# EAGLE library part ATMEGA328PB-AU (library U-AVR)
ATmega328PB 4 Kbytes FLASH 128 bytes SRAM 256 bytes EEPROM 2 UART, 2 I2C, 2 SPI 8-channel 10 bit ADC
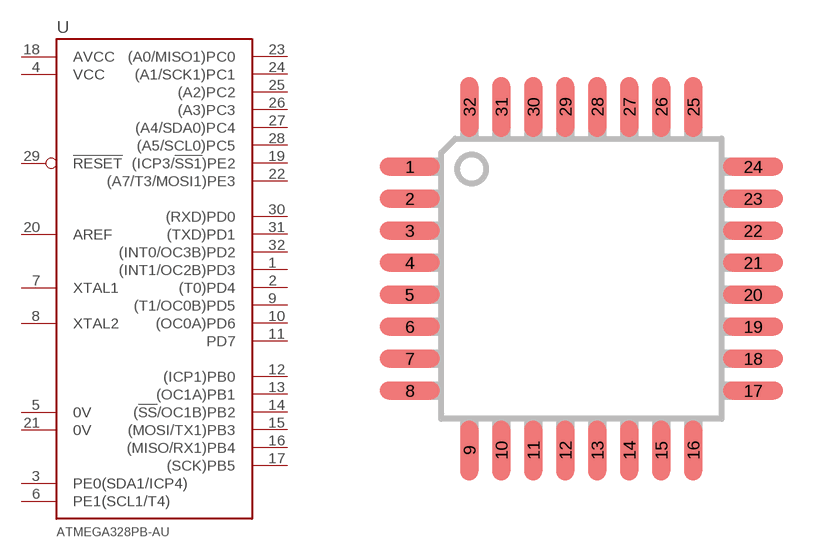
[diagram p11: symbol with the pads of TQFP32-08; footprint TQFP32-08]

Designator prefix U

## ATMEGA328PB-AU  [TQFP32-08]
1  (INT1/OC2B)PD3
2  (T0)PD4
3  PE0(SDA1/ICP4)
4  VCC  pwr
5  0V  pwr
6  PE1(SCL1/T4)
7  XTAL1
8  XTAL2
9  (T1/OC0B)PD5
10  (OC0A)PD6
11  PD7
12  (ICP1)PB0
13  (OC1A)PB1
14  (!SS!/OC1B)PB2
15  (MOSI/TX1)PB3
16  (MISO/RX1)PB4
17  (SCK)PB5
18  AVCC  pas
19  (ICP3/!SS1!)PE2
20  AREF  pas
21  0V  pwr
22  (A7/T3/MOSI1)PE3
23  (A0/MISO1)PC0
24  (A1/SCK1)PC1
25  (A2)PC2
26  (A3)PC3
27  (A4/SDA0)PC4
28  (A5/SCL0)PC5
29  !RESET  in
30  (RXD)PD0
31  (TXD)PD1
32  (INT0/OC3B)PD2

## Footprint TQFP32-08 (pad centres in mm)
Thin Plasic Quad Flat Package Grid 0.8 mm
smd 1.5 x 0.45: 1 -4.293,2.8; 2 -4.293,2; 3 -4.293,1.2; 4 -4.293,0.4; 5 -4.293,-0.4; 6 -4.293,-1.2; 7 -4.293,-2; 8 -4.293,-2.8; 17 4.293,-2.8; 18 4.293,-2; 19 4.293,-1.2; 20 4.293,-0.4; 21 4.293,0.4; 22 4.293,1.2; 23 4.293,2; 24 4.293,2.8
smd 0.45 x 1.5: 9 -2.8,-4.293; 10 -2,-4.293; 11 -1.2,-4.293; 12 -0.4,-4.293; 13 0.4,-4.293; 14 1.2,-4.293; 15 2,-4.293; 16 2.8,-4.293; 25 2.8,4.293; 26 2,4.293; 27 1.2,4.293; 28 0.4,4.293; 29 -0.4,4.293; 30 -1.2,4.293; 31 -2,4.293; 32 -2.8,4.293